# Altium footprint library Parts_PCB_layout.PcbLib: 17 footprints (part 2 of 2)
Each footprint in its own frame and in the unit in brackets; x right, y up, seen from the top. Pads: shape width x height; smd on the part's side, far side on the other; paste and mask are expansions set on the pad; w line width, h text height; cw(c..) or ccw(c..) is an arc to the next point about the centre after c.
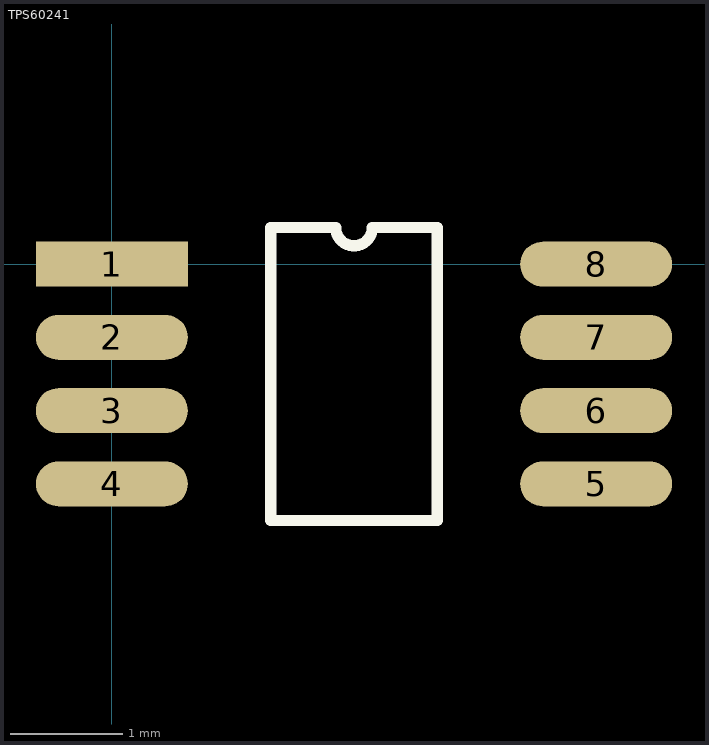
[diagram p1: the footprint, top view; thin cyan lines are the x and y axes]

## TPS60241 [mm]
pads (8):
  rect 1.35x0.4 smd: 1(0,0)
  oval 1.35x0.4 smd: 2(0,-0.65) 3(0,-1.3) 4(0,-1.95) 5(4.3,-1.95) 6(4.3,-1.3) 7(4.3,-0.65) 8(4.3,0)
Top Overlay:
  lines w0.1: 1.41,-2.275 1.41,0.325 1.987,0.325 ccw(c2.15,0.325) 2.312,0.325 2.89,0.325 2.89,-2.275 1.41,-2.275